# Altium schematic symbol library LTC1517CS5-5.SchLib: 2 symbols
Pins are listed as number, name and electrical type; pins without a type are passive.

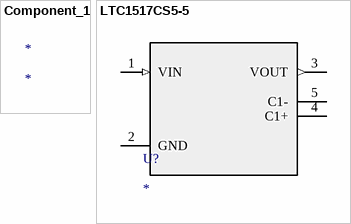
[diagram p0: symbols Component_1 to LTC1517CS5-5]

## Component_1
designator *

## LTC1517CS5-5
designator U?
No Description Available; Mfr_Name: Analog Devices Inc; RefDes: RefDes; Type: Type
footprint S_5_ADI
pins: 1 VIN (in), 2 GND (power), 3 VOUT (out), 4 C1+, 5 C1-